# Altium footprint library SOIC127P1150X331-8N.PcbLib: 1 footprints
Each footprint in its own frame and in the unit in brackets; x right, y up, seen from the top. Pads: shape width x height; smd on the part's side, far side on the other; paste and mask are expansions set on the pad; w line width, h text height; cw(c..) or ccw(c..) is an arc to the next point about the centre after c.
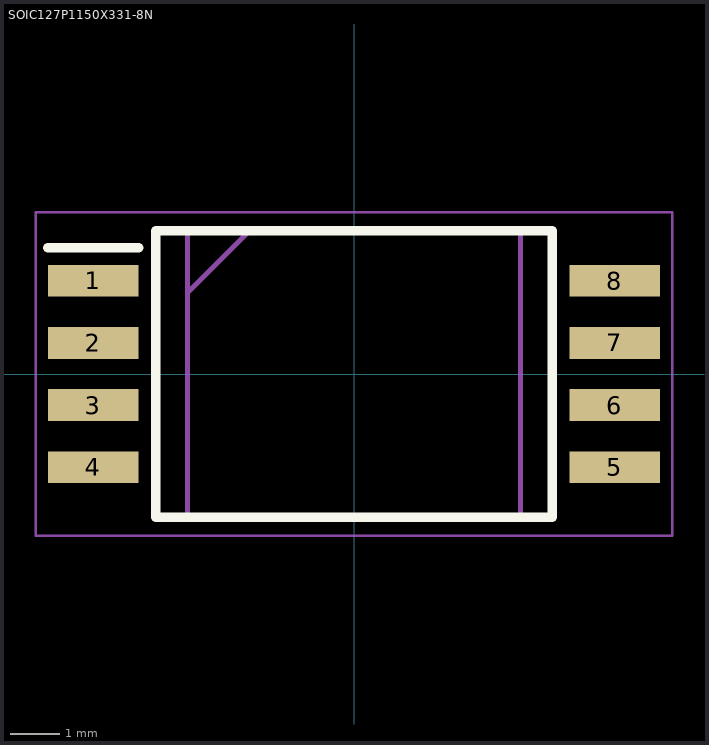
[diagram p0: the footprint, top view; thin cyan lines are the x and y axes]

## SOIC127P1150X331-8N [mm]
pads (8):
  rect 1.85x0.65 smd: 1(-5.325,1.905) 2(-5.325,0.635) 3(-5.325,-0.635) 4(-5.325,-1.905) 5(5.325,-1.905) 6(5.325,-0.635) 7(5.325,0.635) 8(5.325,1.905)
Top Overlay:
  lines w0.2: -6.25,2.58 -4.4,2.58 ; -4.05,-2.925 4.05,-2.925 4.05,2.925 -4.05,2.925 -4.05,-2.925
Mechanical 15:
  lines w0.1: -3.404,1.655 -2.134,2.925 ; -3.404,-2.925 3.404,-2.925 3.404,2.925 -3.404,2.925 -3.404,-2.925
Mechanical 20:
  lines w0.05: -6.5,-3.302 6.5,-3.302 6.5,3.302 -6.5,3.302 -6.5,-3.302